# Altium footprint library Common-Parts-Library.PcbLib: 530 footprints (part 21 of 34)
Each footprint in its own frame and in the unit in brackets; x right, y up, seen from the top. Pads: shape width x height; smd on the part's side, far side on the other; paste and mask are expansions set on the pad; w line width, h text height; cw(c..) or ccw(c..) is an arc to the next point about the centre after c.
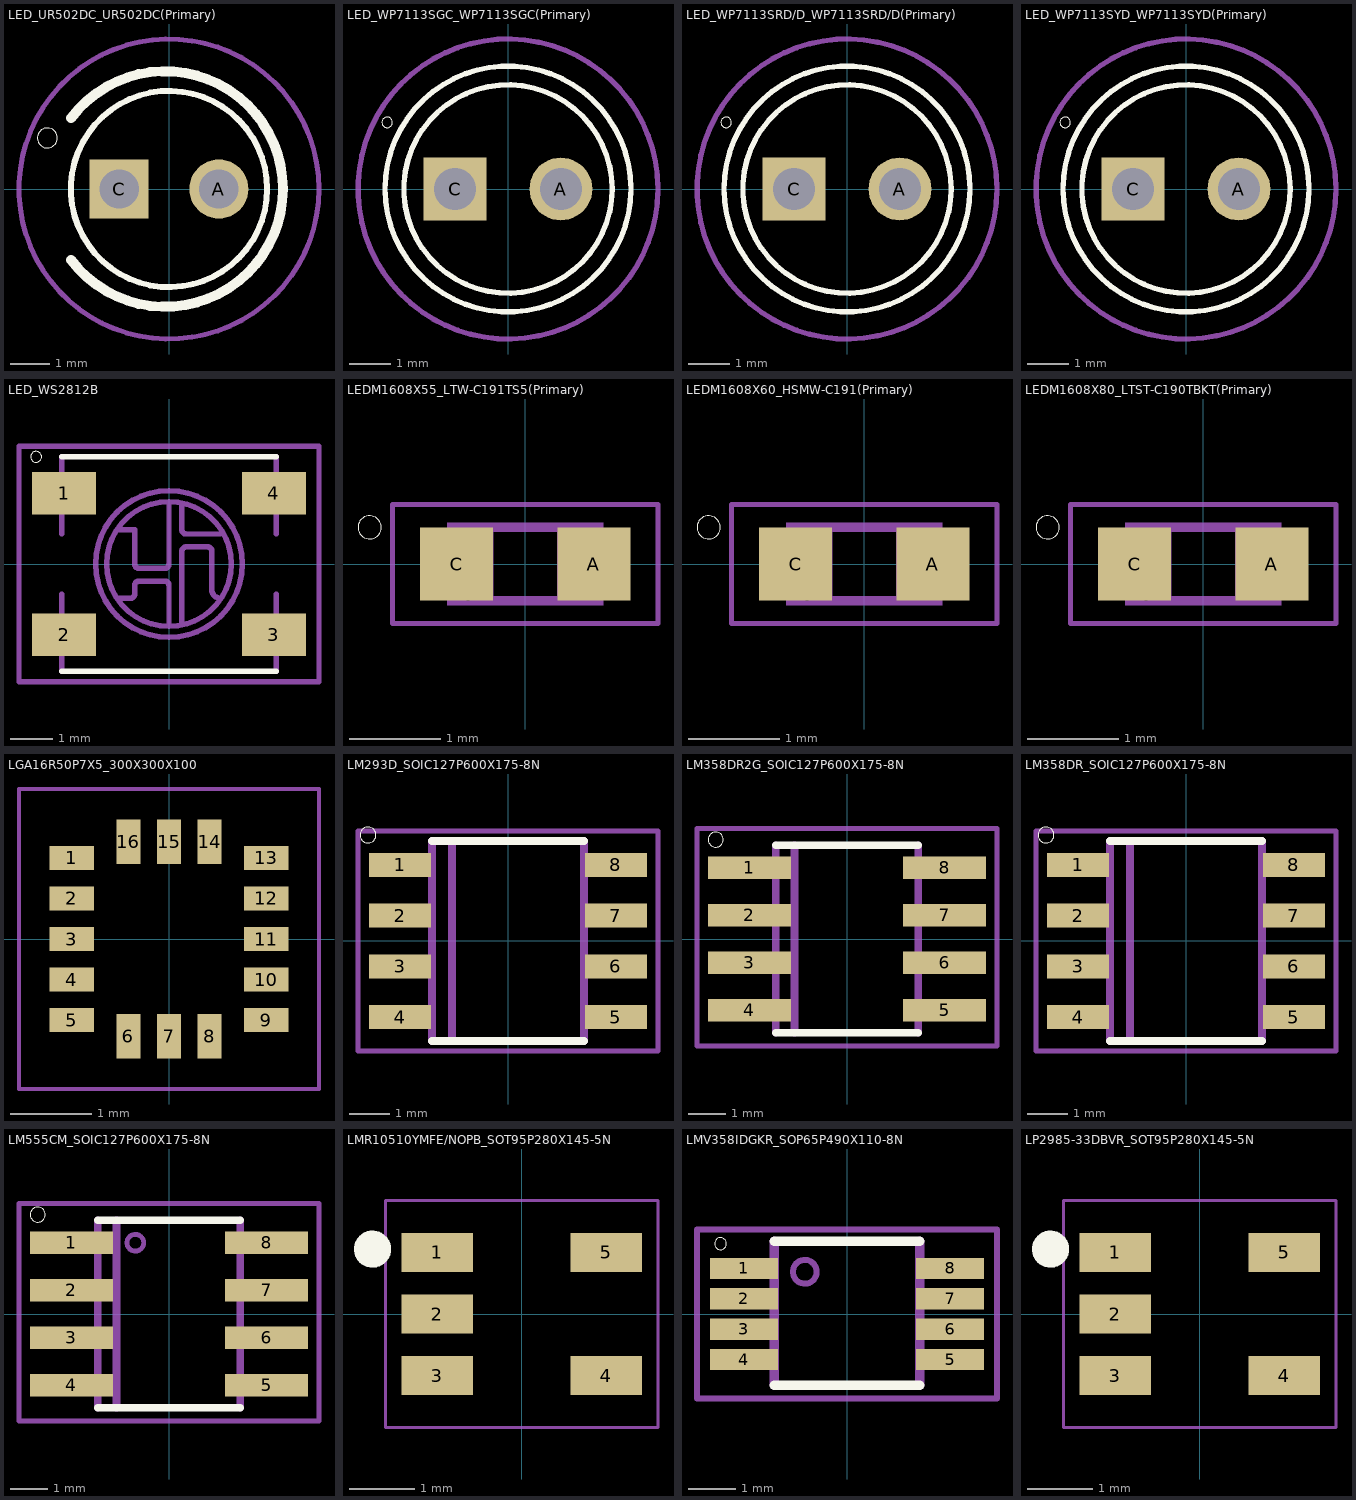
[diagram p20: the footprints below, top view; thin cyan lines are the x and y axes]

## LED_UR502DC_UR502DC(Primary) [mm]
pads (2):
  round 1.508 hole 1: A(1.27,0)
  rect 1.508x1.508 hole 1: C(-1.27,0)
Top Overlay:
  circle w0: c-3.1,1.3 r0.254
  circle w0.152: c0,0 r2.5
  lines w0.254: -2.496,-1.805 ccw(c-0.1,0) -2.496,1.805
Mechanical 1:
  circle w0.127: c0,0 r3.821

## LED_WP7113SGC_WP7113SGC(Primary) [mm]
pads (2):
  round 1.508 hole 1: A(1.27,0)
  rect 1.508x1.508 hole 1: C(-1.27,0)
Top Overlay:
  circle w0: c-2.9,1.6 r0.127
  circle w0.127: c0,0 r2.5
  circle w0.127: c0,0 r2.95
Mechanical 1:
  circle w0.127: c0,0 r3.6

## LED_WP7113SRD/D_WP7113SRD/D(Primary) [mm]
pads (2):
  round 1.508 hole 1: A(1.27,0)
  rect 1.508x1.508 hole 1: C(-1.27,0)
Top Overlay:
  circle w0: c-2.9,1.6 r0.127
  circle w0.127: c0,0 r2.5
  circle w0.127: c0,0 r2.95
Mechanical 1:
  circle w0.127: c0,0 r3.6

## LED_WP7113SYD_WP7113SYD(Primary) [mm]
pads (2):
  round 1.508 hole 1: A(1.27,0)
  rect 1.508x1.508 hole 1: C(-1.27,0)
Top Overlay:
  circle w0: c-2.9,1.6 r0.127
  circle w0.127: c0,0 r2.5
  circle w0.127: c0,0 r2.95
Mechanical 1:
  circle w0.127: c0,0 r3.6

## LED_WS2812B [mm]
pads (4):
  rect 1.5x1 smd: 1(-2.45,1.65) 2(-2.45,-1.65) 3(2.45,-1.65) 4(2.45,1.65)
Top Overlay:
  circle w0: c-3.1,2.5 r0.127
  lines w0.127: -2.5,-2.5 2.5,-2.5 ; -2.5,2.5 2.5,2.5
Mechanical 1:
  circle w0.127: c0,0 r1.456
  circle w0.127: c0,0 r1.712
  lines w0.127: -2.5,-2.5 -2.5,-0.7 ; -2.5,0.7 -2.5,2.5 ; -1.2,-0.8 -0.9,-0.8 ccw(c-0.9,-0.7) -0.8,-0.7 -0.8,-0.5 cw(c-0.7,-0.5) -0.7,-0.4 -0.1,-0.4 cw(c-0.1,-0.5) 0,-0.5 0,-1.4 ; -1.2,0.8 -0.8,0.8 -0.8,0 ccw(c-0.7,0) -0.7,-0.1 -0.1,-0.1 ccw(c-0.1,0) 0,0 0,1.4 ; 0.3,-1.4 0.3,0.3 cw(c0.4,0.3) 0.4,0.4 0.9,0.4 cw(c0.9,0.3) 1,0.3 1,-0.6 ccw(c1.2,-0.6) 1.2,-0.8 ; 0.3,1.4 0.3,0.8 ccw(c0.4,0.8) 0.4,0.7 1.2,0.7 ; 2.5,-2.5 2.5,-0.7 ; 2.5,0.7 2.5,2.5 ; -3.5,-2.75 -3.5,2.75 3.5,2.75 3.5,-2.75 -3.5,-2.75

## LEDM1608X55_LTW-C191TS5(Primary) [mm]
pads (2):
  rect 0.8x0.8 smd: A(0.75,0) C(-0.75,0)
Top Overlay:
  circle w0: c-1.7,0.4 r0.127
Mechanical 1:
  circle w0.051: c-0.625,-0.35 r0.075
  region: 0.551,0.176 0.551,0.275 0.65,0.275 0.65,0.176
  region: 0.55,-0.275 0.55,-0.176 0.651,-0.176 0.651,-0.275
  region: 0.35,-0.275 0.35,0.275 0.575,0.275 0.575,-0.275
  region: 0.35,0.25 0.35,0.45 0.85,0.45 0.85,0.25
  region: 0.35,-0.45 0.35,-0.25 0.85,-0.25 0.85,-0.45
  region: -0.576,-0.451 -0.576,0.451 -0.351,0.451 -0.351,-0.451
  region: -0.851,0.249 -0.851,0.452 -0.552,0.452 -0.552,0.249
  region: -0.727,-0.452 -0.727,-0.4 -0.35,-0.4 -0.35,-0.452
  region: -0.6,-0.275 -0.6,-0.225 -0.55,-0.225 -0.55,-0.275
  region: -0.851,-0.451 -0.851,-0.25 -0.7,-0.25 -0.7,-0.451
  lines w0.05: -1.45,-0.65 -1.45,0.65 1.45,0.65 1.45,-0.65 -1.45,-0.65
  lines w0.051: 0.825,-0.275 cw(c0.825,0) 0.825,0.275
  lines w0.102: -0.8,-0.3 ccw(c-0.826,0) -0.8,0.3 ; -0.375,-0.4 0.35,-0.4 ; -0.35,0.4 0.35,0.4

## LEDM1608X60_HSMW-C191(Primary) [mm]
pads (2):
  rect 0.8x0.8 smd: A(0.75,0) C(-0.75,0)
Top Overlay:
  circle w0: c-1.7,0.4 r0.127
Mechanical 1:
  circle w0.051: c-0.625,-0.35 r0.075
  region: 0.551,0.176 0.551,0.275 0.65,0.275 0.65,0.176
  region: 0.55,-0.275 0.55,-0.176 0.651,-0.176 0.651,-0.275
  region: 0.35,-0.275 0.35,0.274 0.576,0.274 0.576,-0.275
  region: 0.351,0.251 0.351,0.45 0.85,0.45 0.85,0.251
  region: 0.35,-0.45 0.35,-0.25 0.85,-0.25 0.85,-0.45
  region: -0.576,-0.451 -0.576,0.451 -0.351,0.451 -0.351,-0.451
  region: -0.851,0.249 -0.851,0.451 -0.551,0.451 -0.551,0.249
  region: -0.725,-0.45 -0.725,-0.4 -0.35,-0.4 -0.35,-0.45
  region: -0.601,-0.276 -0.601,-0.225 -0.55,-0.225 -0.55,-0.276
  region: -0.851,-0.451 -0.851,-0.25 -0.7,-0.25 -0.7,-0.451
  lines w0.05: -1.45,-0.65 -1.45,0.65 1.45,0.65 1.45,-0.65 -1.45,-0.65
  lines w0.051: 0.825,-0.275 cw(c0.825,0) 0.825,0.275
  lines w0.102: -0.8,-0.3 ccw(c-0.826,0) -0.8,0.3 ; -0.375,-0.4 0.35,-0.4 ; -0.35,0.4 0.35,0.4

## LEDM1608X80_LTST-C190TBKT(Primary) [mm]
pads (2):
  rect 0.8x0.8 smd: A(0.75,0) C(-0.75,0)
Top Overlay:
  circle w0: c-1.7,0.4 r0.127
Mechanical 1:
  circle w0.051: c-0.625,-0.35 r0.075
  region: 0.55,0.175 0.55,0.275 0.65,0.275 0.65,0.175
  region: 0.55,-0.275 0.55,-0.176 0.651,-0.176 0.651,-0.275
  region: 0.35,-0.275 0.35,0.275 0.575,0.275 0.575,-0.275
  region: 0.351,0.251 0.351,0.45 0.85,0.45 0.85,0.251
  region: 0.35,-0.45 0.35,-0.251 0.851,-0.251 0.851,-0.45
  region: -0.576,-0.451 -0.576,0.451 -0.351,0.451 -0.351,-0.451
  region: -0.851,0.249 -0.851,0.451 -0.551,0.451 -0.551,0.249
  region: -0.727,-0.452 -0.727,-0.4 -0.35,-0.4 -0.35,-0.452
  region: -0.601,-0.276 -0.601,-0.225 -0.55,-0.225 -0.55,-0.276
  region: -0.852,-0.452 -0.852,-0.249 -0.701,-0.249 -0.701,-0.452
  lines w0.05: -1.45,-0.65 -1.45,0.65 1.45,0.65 1.45,-0.65 -1.45,-0.65
  lines w0.051: 0.825,-0.275 cw(c0.825,0) 0.825,0.275
  lines w0.102: -0.8,-0.3 ccw(c-0.826,0) -0.8,0.3 ; -0.375,-0.4 0.35,-0.4 ; -0.35,0.4 0.35,0.4

## LGA16R50P7X5_300X300X100 [mm]
pads (16):
  rect 0.55x0.3 smd: 1(-1.2,1) 2(-1.2,0.5) 3(-1.2,0) 4(-1.2,-0.5) 5(-1.2,-1) 9(1.2,-1) 10(1.2,-0.5) 11(1.2,0) 12(1.2,0.5) 13(1.2,1)
  rect 0.3x0.55 smd: 6(-0.5,-1.2) 7(0,-1.2) 8(0.5,-1.2) 14(0.5,1.2) 15(0,1.2) 16(-0.5,1.2)
Mechanical 1:
  lines w0.05: -1.85,-1.85 1.85,-1.85 1.85,1.85 -1.85,1.85 -1.85,-1.85

## LM293D_SOIC127P600X175-8N [mm]
pads (8):
  rect 1.55x0.6 smd: 1(-2.7,1.905) 2(-2.7,0.635) 3(-2.7,-0.635) 4(-2.7,-1.905) 5(2.7,-1.905) 6(2.7,-0.635) 7(2.7,0.635) 8(2.7,1.905)
Top Overlay:
  circle w0: c-3.5,2.65 r0.2
  lines w0.203: -1.9,-2.5 1.9,-2.5 ; -1.9,2.5 1.9,2.5
Mechanical 1:
  region: 3.101,2.149 3.101,1.665 2.005,1.665 2.005,2.149
  region: 3.102,0.878 3.102,0.392 2.003,0.392 2.003,0.878
  region: 3.103,-0.392 3.103,-0.879 2.001,-0.879 2.001,-0.392
  region: 3.107,-1.667 3.107,-2.15 2,-2.15 2,-1.667
  region: -2.001,-1.659 -2.001,-2.159 -3.109,-2.159 -3.109,-1.659
  region: -2.001,-0.389 -2.001,-0.883 -3.103,-0.883 -3.103,-0.389
  region: -2.005,0.885 -2.005,0.385 -3.105,0.385 -3.105,0.885
  region: -2.004,2.154 -2.004,1.659 -3.101,1.659 -3.101,2.154
  lines w0.127: -3.75,-2.75 -3.75,2.75 3.75,2.75 3.75,-2.75 -3.75,-2.75
  lines w0.203: -1.9,-2.5 -1.9,2.5 ; -1.4,-2.5 -1.4,2.5 ; 1.9,-2.5 1.9,2.5

## LM358DR2G_SOIC127P600X175-8N [mm]
pads (8):
  rect 2.2x0.6 smd: 1(-2.6,1.905) 2(-2.6,0.635) 3(-2.6,-0.635) 4(-2.6,-1.905) 5(2.6,-1.905) 6(2.6,-0.635) 7(2.6,0.635) 8(2.6,1.905)
Top Overlay:
  circle w0: c-3.5,2.65 r0.2
  lines w0.203: -1.9,-2.5 1.9,-2.5 ; -1.9,2.5 1.9,2.5
Mechanical 1:
  region: 3.101,2.149 3.101,1.664 2.004,1.664 2.004,2.149
  region: 3.101,0.879 3.101,0.391 2.001,0.391 2.001,0.879
  region: 3.105,-0.395 3.105,-0.878 2.002,-0.878 2.002,-0.395
  region: 3.103,-1.663 3.103,-2.15 2,-2.15 2,-1.663
  region: -2,-1.659 -2,-2.158 -3.108,-2.158 -3.108,-1.659
  region: -2.002,-0.388 -2.002,-0.885 -3.105,-0.885 -3.105,-0.388
  region: -2.004,0.884 -2.004,0.386 -3.104,0.386 -3.104,0.884
  region: -2.004,2.154 -2.004,1.658 -3.102,1.658 -3.102,2.154
  lines w0.127: -4,-2.85 -4,2.95 4,2.95 4,-2.85 -4,-2.85
  lines w0.203: -1.9,-2.5 -1.9,2.5 ; -1.4,-2.5 -1.4,2.5 ; 1.9,-2.5 1.9,2.5

## LM358DR_SOIC127P600X175-8N [mm]
pads (8):
  rect 1.55x0.6 smd: 1(-2.7,1.905) 2(-2.7,0.635) 3(-2.7,-0.635) 4(-2.7,-1.905) 5(2.7,-1.905) 6(2.7,-0.635) 7(2.7,0.635) 8(2.7,1.905)
Top Overlay:
  circle w0: c-3.5,2.65 r0.2
  lines w0.203: -1.9,-2.5 1.9,-2.5 ; -1.9,2.5 1.9,2.5
Mechanical 1:
  region: 3.101,2.149 3.101,1.662 2.002,1.662 2.002,2.149
  region: 3.103,0.877 3.103,0.393 2.003,0.393 2.003,0.877
  region: 3.105,-0.395 3.105,-0.879 2.002,-0.879 2.002,-0.395
  region: 3.104,-1.664 3.104,-2.15 2,-2.15 2,-1.664
  region: -2,-1.66 -2,-2.152 -3.102,-2.152 -3.102,-1.66
  region: -2,-0.389 -2,-0.881 -3.101,-0.881 -3.101,-0.389
  region: -2.003,0.883 -2.003,0.387 -3.103,0.387 -3.103,0.883
  region: -2.004,2.154 -2.004,1.658 -3.102,1.658 -3.102,2.154
  lines w0.127: -3.75,-2.75 -3.75,2.75 3.75,2.75 3.75,-2.75 -3.75,-2.75
  lines w0.203: -1.9,-2.5 -1.9,2.5 ; -1.4,-2.5 -1.4,2.5 ; 1.9,-2.5 1.9,2.5

## LM555CM_SOIC127P600X175-8N [mm]
pads (8):
  rect 2.2x0.6 smd: 1(-2.6,1.905) 2(-2.6,0.635) 3(-2.6,-0.635) 4(-2.6,-1.905) 5(2.6,-1.905) 6(2.6,-0.635) 7(2.6,0.635) 8(2.6,1.905)
Top Overlay:
  circle w0: c-3.5,2.65 r0.2
  lines w0.203: -1.9,-2.5 1.9,-2.5 ; -1.9,2.5 1.9,2.5
Mechanical 1:
  circle w0.127: c-0.9,1.9 r0.224
  region: 3.102,2.149 3.102,1.665 2.005,1.665 2.005,2.149
  region: 3.101,0.879 3.101,0.391 2.001,0.391 2.001,0.879
  region: 3.103,-0.393 3.103,-0.879 2.001,-0.879 2.001,-0.393
  region: 3.106,-1.666 3.106,-2.15 2,-2.15 2,-1.666
  region: -2,-1.66 -2,-2.154 -3.104,-2.154 -3.104,-1.66
  region: -2.001,-0.389 -2.001,-0.882 -3.102,-0.882 -3.102,-0.389
  region: -2.003,0.883 -2.003,0.387 -3.103,0.387 -3.103,0.883
  region: -2.003,2.153 -2.003,1.659 -3.101,1.659 -3.101,2.153
  lines w0.127: -4,-2.85 -4,2.95 4,2.95 4,-2.85 -4,-2.85
  lines w0.203: -1.9,-2.5 -1.9,2.5 ; -1.4,-2.5 -1.4,2.5 ; 1.9,-2.5 1.9,2.5

## LMR10510YMFE/NOPB_SOT95P280X145-5N [mm]
pads (5):
  rect 1.1x0.6 smd: 1(-1.3,0.95) 2(-1.3,0) 3(-1.3,-0.95) 4(1.3,-0.95) 5(1.3,0.95)
Top Overlay:
  circle w0.127: c-2.4,1 r0.1
  circle w0.127: c-2.3,1 r0.1
  circle w0.127: c-2.3,1 r0.141
  circle w0.127: c-2.3,1 r0.224
Mechanical 1:
  lines w0.05: -2.1,-1.75 -2.1,1.75 2.1,1.75 2.1,-1.75 -2.1,-1.75

## LMV358IDGKR_SOP65P490X110-8N [mm]
pads (8):
  rect 1.45x0.45 smd: 1(-2.2,0.975) 2(-2.2,0.325) 3(-2.2,-0.325) 4(-2.2,-0.975) 5(2.2,-0.975) 6(2.2,-0.325) 7(2.2,0.325) 8(2.2,0.975)
Top Overlay:
  circle w0: c-2.7,1.5 r0.127
  lines w0.203: -1.55,-1.525 1.55,-1.525 ; -1.55,1.55 1.55,1.55
Top Solder:
  region: 1.428,-0.7 2.975,-0.7 2.975,-1.253 1.428,-1.253
  region: 1.428,-0.05 2.975,-0.05 2.975,-0.601 1.428,-0.601
  region: 1.427,0.6 2.975,0.6 2.975,0.05 1.427,0.05
  region: 1.428,1.25 2.975,1.25 2.975,0.701 1.428,0.701
  region: -1.425,-1.254 -2.984,-1.254 -2.984,-0.7 -1.425,-0.7
  region: -1.425,-0.601 -2.98,-0.601 -2.98,-0.05 -1.425,-0.05
  region: -1.425,0.05 -2.982,0.05 -2.982,0.6 -1.425,0.6
  region: -1.425,0.703 -2.987,0.703 -2.987,1.25 -1.425,1.25
Mechanical 1:
  circle w0.127: c-0.9,0.9 r0.254
  region: 1.628,0.803 1.628,1.149 2.501,1.149 2.501,0.803
  region: 1.626,0.151 1.626,0.499 2.501,0.499 2.501,0.151
  region: 1.626,-0.499 1.626,-0.152 2.502,-0.152 2.502,-0.499
  region: 1.625,-1.15 1.625,-0.802 2.502,-0.802 2.502,-1.15
  region: -1.626,-0.799 -1.626,-1.155 -2.505,-1.155 -2.505,-0.799
  region: -1.626,-0.149 -1.626,-0.503 -2.503,-0.503 -2.503,-0.149
  region: -1.627,0.503 -1.627,0.147 -2.503,0.147 -2.503,0.503
  region: -1.629,1.154 -1.629,0.798 -2.502,0.798 -2.502,1.154
  lines w0.127: -3.2,-1.8 3.2,-1.8 3.2,1.8 -3.2,1.8 -3.2,-1.8
  lines w0.203: -1.55,-1.525 -1.55,1.55 ; 1.55,-1.525 1.55,1.55

## LP2985-33DBVR_SOT95P280X145-5N [mm]
pads (5):
  rect 1.1x0.6 smd: 1(-1.3,0.95) 2(-1.3,0) 3(-1.3,-0.95) 4(1.3,-0.95) 5(1.3,0.95)
Top Overlay:
  circle w0.127: c-2.4,1 r0.1
  circle w0.127: c-2.3,1 r0.1
  circle w0.127: c-2.3,1 r0.141
  circle w0.127: c-2.3,1 r0.224
Mechanical 1:
  lines w0.05: -2.1,-1.75 -2.1,1.75 2.1,1.75 2.1,-1.75 -2.1,-1.75